# Altium footprint library con-omron.PCBLIB: 109 footprints (part 2 of 8)
Each footprint in its own frame and in the unit in brackets; x right, y up, seen from the top. Pads: shape width x height; smd on the part's side, far side on the other; paste and mask are expansions set on the pad; w line width, h text height; cw(c..) or ccw(c..) is an arc to the next point about the centre after c.
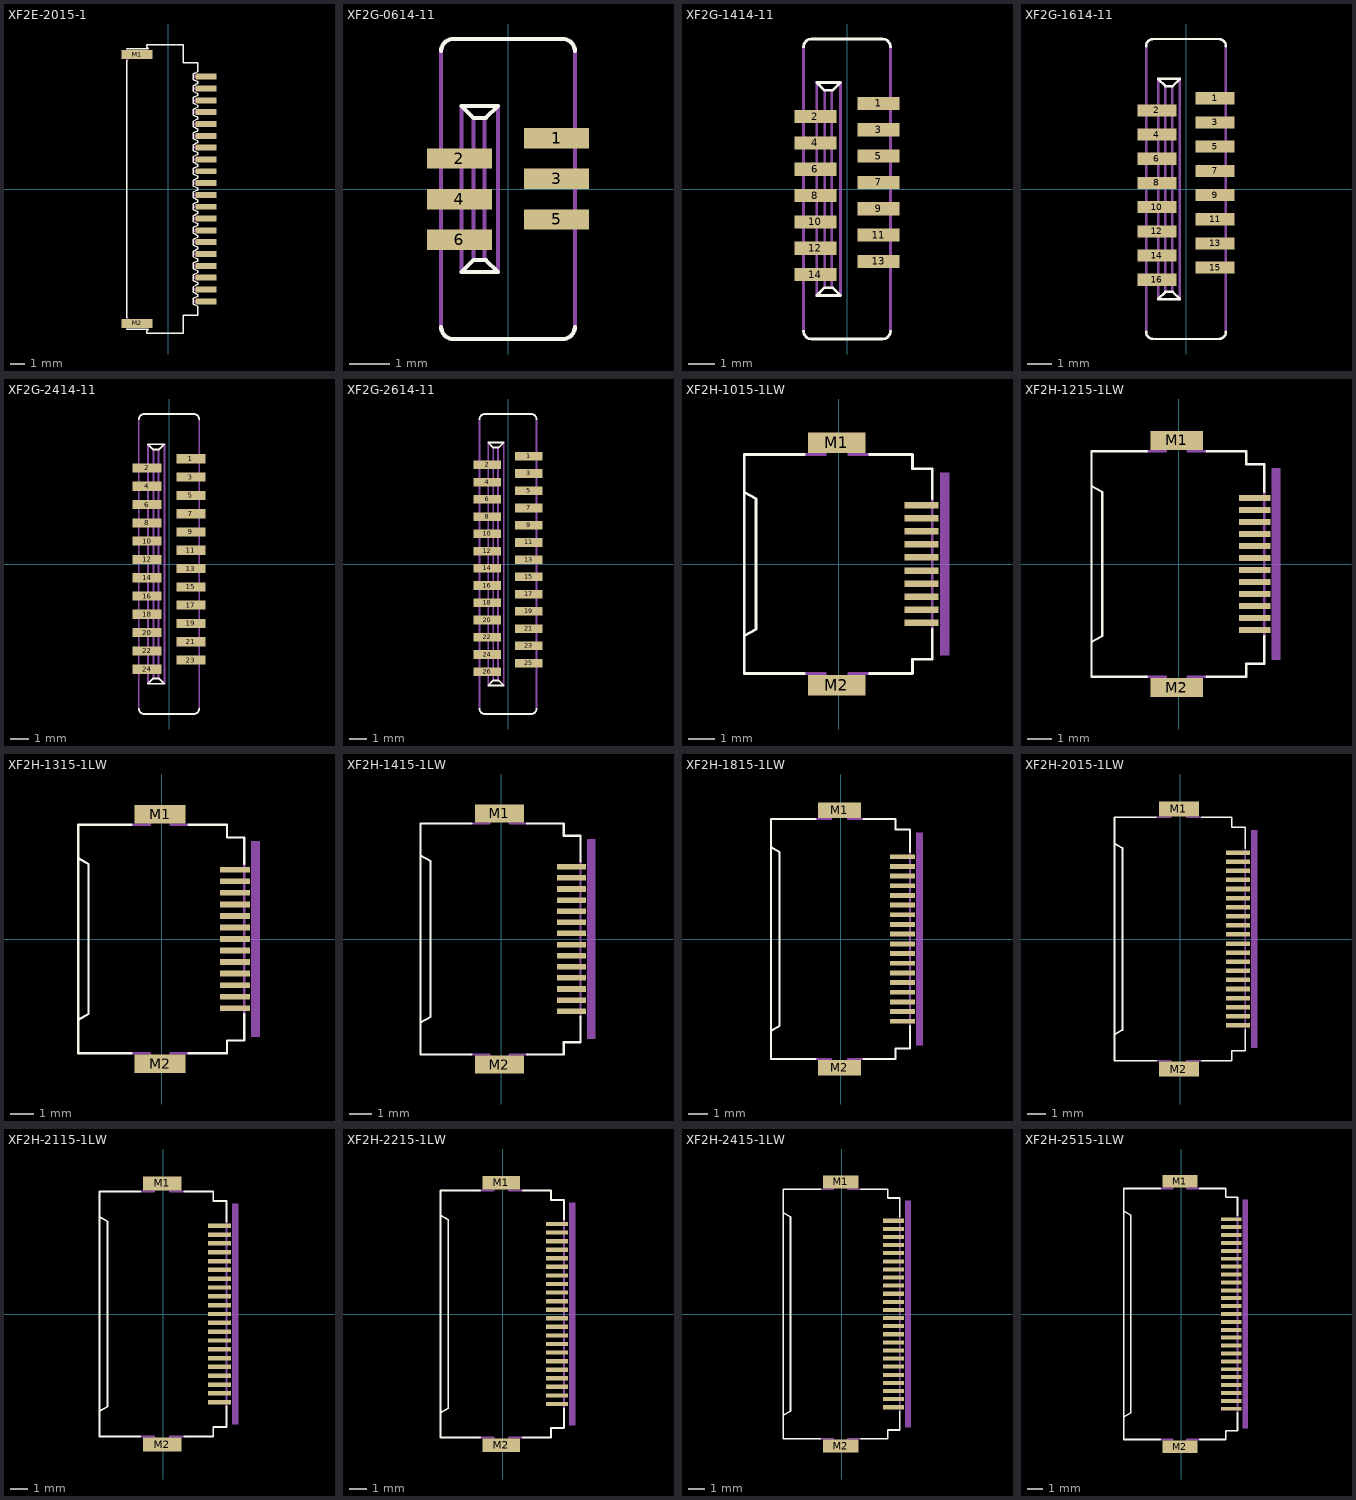
[diagram p1: the footprints below, top view; thin cyan lines are the x and y axes]

## XF2E-2015-1 [mm]
pads (22):
  rect 1.4x0.4 smd: 1(2.54,7.6) 2(2.54,6.8) 3(2.54,6) 4(2.54,5.2) 5(2.54,4.4) 6(2.54,3.6) 7(2.54,2.8) 8(2.54,2) 9(2.54,1.2) 10(2.54,0.4) 11(2.54,-0.4) 12(2.54,-1.2) 13(2.54,-2) 14(2.54,-2.8) 15(2.54,-3.6) 16(2.54,-4.4) 17(2.54,-5.2) 18(2.54,-6) 19(2.54,-6.8) 20(2.54,-7.6)
  rect 2.1x0.6 smd: M1(-2.11,9.1) M2(-2.11,-9.1)
Top Overlay:
  lines w0.102: -2.81,-9.5 -1.36,-9.5 -1.46,-9.6 -1.46,-9.75 0.99,-9.75 0.99,-8.55 1.99,-8.55 1.99,-7.95 1.69,-7.8 1.69,-7.4 1.99,-7.25 1.99,-7.15 1.69,-7 1.69,-6.6 1.99,-6.45 1.99,-6.35 1.69,-6.2 1.69,-5.8 1.99,-5.65 1.99,-5.55 1.69,-5.4 1.69,-5 1.99,-4.85 1.99,-4.75 1.69,-4.6 1.69,-4.2 1.99,-4.05 1.99,-3.95 1.69,-3.8 1.69,-3.4 1.99,-3.25 1.99,-3.15 1.69,-3 1.69,-2.6 1.99,-2.45 1.99,-2.35 1.69,-2.2 1.69,-1.8 1.99,-1.65 1.99,-1.55 1.69,-1.4 1.69,-1 1.99,-0.85 1.99,-0.75 1.69,-0.6 1.69,-0.2 1.99,-0.05 1.99,0.05 1.69,0.2 1.69,0.6 1.99,0.75 1.99,0.85 1.69,1 1.69,1.4 1.99,1.55 1.99,1.65 1.69,1.8 1.69,2.2 1.99,2.35 1.99,2.45 1.69,2.6 1.69,3 1.99,3.15 1.99,3.25 1.69,3.4 1.69,3.8 1.99,3.95 1.99,4.05 1.69,4.2 1.69,4.6 1.99,4.75 1.99,4.85 1.69,5 1.69,5.4 1.99,5.55 1.99,5.65 1.69,5.8 1.69,6.2 1.99,6.35 1.99,6.45 1.69,6.6 1.69,7 1.99,7.15 1.99,7.25 1.69,7.4 1.69,7.8 1.99,7.95 1.99,8.55 0.99,8.55 0.99,9.75 -1.46,9.75 -1.46,9.6 -1.36,9.5 -2.81,9.5 ; -2.81,-8.7 -2.81,8.7
Mechanical 16:
  rectangle: 1.74,7.5 2.74,7.7
  rectangle: 1.74,6.7 2.74,6.9
  rectangle: 1.74,5.9 2.74,6.1
  rectangle: 1.74,5.1 2.74,5.3
  rectangle: 1.74,4.3 2.74,4.5
  rectangle: 1.74,3.5 2.74,3.7
  rectangle: 1.74,2.7 2.74,2.9
  rectangle: 1.74,1.9 2.74,2.1
  rectangle: 1.74,1.1 2.74,1.3
  rectangle: 1.74,0.3 2.74,0.5
  rectangle: 1.74,-0.5 2.74,-0.3
  rectangle: 1.74,-1.3 2.74,-1.1
  rectangle: 1.74,-2.1 2.74,-1.9
  rectangle: 1.74,-2.9 2.74,-2.7
  rectangle: 1.74,-3.7 2.74,-3.5
  rectangle: 1.74,-4.5 2.74,-4.3
  rectangle: 1.74,-5.3 2.74,-5.1
  rectangle: 1.74,-6.1 2.74,-5.9
  rectangle: 1.74,-6.9 2.74,-6.7
  rectangle: 1.74,-7.7 2.74,-7.5
  lines w0.102: -2.81,-9.5 -2.81,-8.95 -2.61,-8.95 -2.81,-8.7 ; -2.81,8.7 -2.61,8.95 -2.81,8.95 -2.81,9.5

## XF2G-0614-11 [mm]
pads (6):
  rect 1.6x0.5 smd: 1(1.2,1.25) 2(-1.2,0.75) 3(1.2,0.25) 4(-1.2,-0.25) 5(1.2,-0.75) 6(-1.2,-1.25)
Top Overlay:
  lines w0.102: -1.65,-3.4 ccw(c-1.35,-3.4) -1.35,-3.7 1.35,-3.7 ccw(c1.35,-3.4) 1.65,-3.4 ; -1.65,3.4 cw(c-1.35,3.4) -1.35,3.7 1.35,3.7 cw(c1.35,3.4) 1.65,3.4 ; -0.575,-1.75 -0.85,-1.75 -1.15,-2.05 -0.25,-2.05 -0.55,-1.75 ; -0.575,1.75 -0.85,1.75 -1.15,2.05 -0.25,2.05 -0.55,1.75
Mechanical 16:
  lines w0.102: -1.65,-3.4 -1.65,3.4 ; -1.15,-2.05 -1.15,2.05 ; -0.85,-1.75 -0.85,1.75 ; -0.55,-1.75 -0.575,-1.75 -0.575,1.75 -0.55,1.75 ; -0.25,-2.05 -0.25,2.05 ; 1.65,-3.4 1.65,3.4

## XF2G-1414-11 [mm]
pads (14):
  rect 1.6x0.5 smd: 1(1.2,3.25) 2(-1.2,2.75) 3(1.2,2.25) 4(-1.2,1.75) 5(1.2,1.25) 6(-1.2,0.75) 7(1.2,0.25) 8(-1.2,-0.25) 9(1.2,-0.75) 10(-1.2,-1.25) 11(1.2,-1.75) 12(-1.2,-2.25) 13(1.2,-2.75) 14(-1.2,-3.25)
Top Overlay:
  lines w0.102: -1.65,-5.4 ccw(c-1.35,-5.4) -1.35,-5.7 1.35,-5.7 ccw(c1.35,-5.4) 1.65,-5.4 ; -1.65,5.4 cw(c-1.35,5.4) -1.35,5.7 1.35,5.7 cw(c1.35,5.4) 1.65,5.4 ; -0.575,-3.75 -0.85,-3.75 -1.15,-4.05 -0.25,-4.05 -0.55,-3.75 ; -0.575,3.75 -0.85,3.75 -1.15,4.05 -0.25,4.05 -0.55,3.75
Mechanical 16:
  lines w0.102: -1.65,-5.4 -1.65,5.4 ; -1.15,-4.05 -1.15,4.05 ; -0.85,-3.75 -0.85,3.75 ; -0.55,-3.75 -0.575,-3.75 -0.575,3.75 -0.55,3.75 ; -0.25,-4.05 -0.25,4.05 ; 1.65,-5.4 1.65,5.4

## XF2G-1614-11 [mm]
pads (16):
  rect 1.6x0.5 smd: 1(1.2,3.75) 2(-1.2,3.25) 3(1.2,2.75) 4(-1.2,2.25) 5(1.2,1.75) 6(-1.2,1.25) 7(1.2,0.75) 8(-1.2,0.25) 9(1.2,-0.25) 10(-1.2,-0.75) 11(1.2,-1.25) 12(-1.2,-1.75) 13(1.2,-2.25) 14(-1.2,-2.75) 15(1.2,-3.25) 16(-1.2,-3.75)
Top Overlay:
  lines w0.102: -1.65,-5.9 ccw(c-1.35,-5.9) -1.35,-6.2 1.35,-6.2 ccw(c1.35,-5.9) 1.65,-5.9 ; -1.65,5.9 cw(c-1.35,5.9) -1.35,6.2 1.35,6.2 cw(c1.35,5.9) 1.65,5.9 ; -0.575,-4.25 -0.85,-4.25 -1.15,-4.55 -0.25,-4.55 -0.55,-4.25 ; -0.575,4.25 -0.85,4.25 -1.15,4.55 -0.25,4.55 -0.55,4.25
Mechanical 16:
  lines w0.102: -1.65,-5.9 -1.65,5.9 ; -1.15,-4.55 -1.15,4.55 ; -0.85,-4.25 -0.85,4.25 ; -0.55,-4.25 -0.575,-4.25 -0.575,4.25 -0.55,4.25 ; -0.25,-4.55 -0.25,4.55 ; 1.65,-5.9 1.65,5.9

## XF2G-2414-11 [mm]
pads (24):
  rect 1.6x0.5 smd: 1(1.2,5.75) 2(-1.2,5.25) 3(1.2,4.75) 4(-1.2,4.25) 5(1.2,3.75) 6(-1.2,3.25) 7(1.2,2.75) 8(-1.2,2.25) 9(1.2,1.75) 10(-1.2,1.25) 11(1.2,0.75) 12(-1.2,0.25) 13(1.2,-0.25) 14(-1.2,-0.75) 15(1.2,-1.25) 16(-1.2,-1.75) 17(1.2,-2.25) 18(-1.2,-2.75) 19(1.2,-3.25) 20(-1.2,-3.75) 21(1.2,-4.25) 22(-1.2,-4.75) 23(1.2,-5.25) 24(-1.2,-5.75)
Top Overlay:
  lines w0.102: -1.65,-7.9 ccw(c-1.35,-7.9) -1.35,-8.2 1.35,-8.2 ccw(c1.35,-7.9) 1.65,-7.9 ; -1.65,7.9 cw(c-1.35,7.9) -1.35,8.2 1.35,8.2 cw(c1.35,7.9) 1.65,7.9 ; -0.575,-6.25 -0.85,-6.25 -1.15,-6.55 -0.25,-6.55 -0.55,-6.25 ; -0.575,6.25 -0.85,6.25 -1.15,6.55 -0.25,6.55 -0.55,6.25
Mechanical 16:
  lines w0.102: -1.65,-7.9 -1.65,7.9 ; -1.15,-6.55 -1.15,6.55 ; -0.85,-6.25 -0.85,6.25 ; -0.55,-6.25 -0.575,-6.25 -0.575,6.25 -0.55,6.25 ; -0.25,-6.55 -0.25,6.55 ; 1.65,-7.9 1.65,7.9

## XF2G-2614-11 [mm]
pads (26):
  rect 1.6x0.5 smd: 1(1.2,6.25) 2(-1.2,5.75) 3(1.2,5.25) 4(-1.2,4.75) 5(1.2,4.25) 6(-1.2,3.75) 7(1.2,3.25) 8(-1.2,2.75) 9(1.2,2.25) 10(-1.2,1.75) 11(1.2,1.25) 12(-1.2,0.75) 13(1.2,0.25) 14(-1.2,-0.25) 15(1.2,-0.75) 16(-1.2,-1.25) 17(1.2,-1.75) 18(-1.2,-2.25) 19(1.2,-2.75) 20(-1.2,-3.25) 21(1.2,-3.75) 22(-1.2,-4.25) 23(1.2,-4.75) 24(-1.2,-5.25) 25(1.2,-5.75) 26(-1.2,-6.25)
Top Overlay:
  lines w0.102: -1.65,-8.4 ccw(c-1.35,-8.4) -1.35,-8.7 1.35,-8.7 ccw(c1.35,-8.4) 1.65,-8.4 ; -1.65,8.4 cw(c-1.35,8.4) -1.35,8.7 1.35,8.7 cw(c1.35,8.4) 1.65,8.4 ; -0.575,-6.75 -0.85,-6.75 -1.15,-7.05 -0.25,-7.05 -0.55,-6.75 ; -0.575,6.75 -0.85,6.75 -1.15,7.05 -0.25,7.05 -0.55,6.75
Mechanical 16:
  lines w0.102: -1.65,-8.4 -1.65,8.4 ; -1.15,-7.05 -1.15,7.05 ; -0.85,-6.75 -0.85,6.75 ; -0.55,-6.75 -0.575,-6.75 -0.575,6.75 -0.55,6.75 ; -0.25,-7.05 -0.25,7.05 ; 1.65,-8.4 1.65,8.4

## XF2H-1015-1LW [mil]
pads (12):
  rect 51.18x9.84 smd: 1(125,88.58) 2(125,68.9) 3(125,49.21) 4(125,29.53) 5(125,9.84) 6(125,-9.84) 7(125,-29.53) 8(125,-49.21) 9(125,-68.9) 10(125,-88.58)
  rect 86.61x31.5 smd: M1(-2.95,183.07) M2(-2.95,-183.07)
Top Overlay:
  lines w4: -52.17,-165.35 -142.72,-165.35 -142.72,-108.27 ; -52.17,165.35 -142.72,165.35 -142.72,108.27 ; 46.26,-165.35 111.22,-165.35 111.22,-143.7 140.75,-143.7 140.75,-98.43 ; 46.26,165.35 111.22,165.35 111.22,143.7 140.75,143.7 140.75,98.43 ; -142.72,-108.27 -125,-98.43 -125,98.43 -142.72,108.27 ; -142.72,-108.27 -142.72,108.27
Top Solder:
  rectangle: 97.44,81.69 152.56,95.47
  rectangle: 97.44,62.01 152.56,75.79
  rectangle: 97.44,42.32 152.56,56.1
  rectangle: 97.44,22.64 152.56,36.42
  rectangle: 97.44,2.95 152.56,16.73
  rectangle: 97.44,-16.73 152.56,-2.95
  rectangle: 97.44,-36.42 152.56,-22.64
  rectangle: 97.44,-56.1 152.56,-42.32
  rectangle: 97.44,-75.79 152.56,-62.01
  rectangle: 97.44,-95.47 152.56,-81.69
Mechanical 16:
  lines w4: -52.17,-165.35 -20.67,-165.35 -20.67,-177.17 14.76,-177.17 14.76,-165.35 46.26,-165.35 ; -52.17,165.35 -20.67,165.35 -20.67,177.17 14.76,177.17 14.76,165.35 46.26,165.35 ; 140.75,-98.43 140.75,98.43
Via Holes:
  rectangle: 8.86,-98.43 97.44,98.43
Mechanical 27:
  rectangle: 152.56,-137.8 167.32,137.8

## XF2H-1215-1LW [mil]
pads (14):
  rect 51.18x9.84 smd: 1(125,108.27) 2(125,88.58) 3(125,68.9) 4(125,49.21) 5(125,29.53) 6(125,9.84) 7(125,-9.84) 8(125,-29.53) 9(125,-49.21) 10(125,-68.9) 11(125,-88.58) 12(125,-108.27)
  rect 86.61x31.5 smd: M1(-2.95,202.76) M2(-2.95,-202.76)
Top Overlay:
  lines w4: -52.17,-185.04 -142.72,-185.04 -142.72,-127.95 ; -52.17,185.04 -142.72,185.04 -142.72,127.95 ; 46.26,-185.04 111.22,-185.04 111.22,-163.39 140.75,-163.39 140.75,-118.11 ; 46.26,185.04 111.22,185.04 111.22,163.39 140.75,163.39 140.75,118.11 ; -142.72,-127.95 -125,-118.11 -125,118.11 -142.72,127.95 ; -142.72,-127.95 -142.72,127.95
Top Solder:
  rectangle: 97.44,101.38 152.56,115.16
  rectangle: 97.44,81.69 152.56,95.47
  rectangle: 97.44,62.01 152.56,75.79
  rectangle: 97.44,42.32 152.56,56.1
  rectangle: 97.44,22.64 152.56,36.42
  rectangle: 97.44,2.95 152.56,16.73
  rectangle: 97.44,-16.73 152.56,-2.95
  rectangle: 97.44,-36.42 152.56,-22.64
  rectangle: 97.44,-56.1 152.56,-42.32
  rectangle: 97.44,-75.79 152.56,-62.01
  rectangle: 97.44,-95.47 152.56,-81.69
  rectangle: 97.44,-115.16 152.56,-101.38
Mechanical 16:
  lines w4: -52.17,-185.04 -20.67,-185.04 -20.67,-196.85 14.76,-196.85 14.76,-185.04 46.26,-185.04 ; -52.17,185.04 -20.67,185.04 -20.67,196.85 14.76,196.85 14.76,185.04 46.26,185.04 ; 140.75,-118.11 140.75,118.11
Via Holes:
  rectangle: 8.86,-118.11 97.44,118.11
Mechanical 27:
  rectangle: 152.56,-157.48 167.32,157.48

## XF2H-1315-1LW [mm]
pads (15):
  rect 1.3x0.25 smd: 1(3.175,3) 2(3.175,2.5) 3(3.175,2) 4(3.175,1.5) 5(3.175,1) 6(3.175,0.5) 7(3.175,0) 8(3.175,-0.5) 9(3.175,-1) 10(3.175,-1.5) 11(3.175,-2) 12(3.175,-2.5) 13(3.175,-3)
  rect 2.2x0.8 smd: M1(-0.075,5.4) M2(-0.075,-5.4)
Top Overlay:
  lines w0.102: -1.325,-4.95 -3.625,-4.95 -3.625,-3.5 ; -1.325,4.95 -3.625,4.95 -3.625,3.5 ; 1.175,-4.95 2.825,-4.95 2.825,-4.4 3.575,-4.4 3.575,-3.25 ; 1.175,4.95 2.825,4.95 2.825,4.4 3.575,4.4 3.575,3.25 ; -3.625,-3.5 -3.175,-3.25 -3.175,3.25 -3.625,3.5 ; -3.625,-3.5 -3.625,3.5
Top Solder:
  rectangle: 2.475,2.825 3.875,3.175
  rectangle: 2.475,2.325 3.875,2.675
  rectangle: 2.475,1.825 3.875,2.175
  rectangle: 2.475,1.325 3.875,1.675
  rectangle: 2.475,0.825 3.875,1.175
  rectangle: 2.475,0.325 3.875,0.675
  rectangle: 2.475,-0.175 3.875,0.175
  rectangle: 2.475,-0.675 3.875,-0.325
  rectangle: 2.475,-1.175 3.875,-0.825
  rectangle: 2.475,-1.675 3.875,-1.325
  rectangle: 2.475,-2.175 3.875,-1.825
  rectangle: 2.475,-2.675 3.875,-2.325
  rectangle: 2.475,-3.175 3.875,-2.825
Mechanical 16:
  lines w0.102: -1.325,-4.95 -0.525,-4.95 -0.525,-5.25 0.375,-5.25 0.375,-4.95 1.175,-4.95 ; -1.325,4.95 -0.525,4.95 -0.525,5.25 0.375,5.25 0.375,4.95 1.175,4.95 ; 3.575,-3.25 3.575,3.25
Via Holes:
  rectangle: 0.225,-3.25 2.475,3.25
Mechanical 27:
  rectangle: 3.875,-4.25 4.25,4.25

## XF2H-1415-1LW [mil]
pads (16):
  rect 51.18x9.84 smd: 1(125,127.95) 2(125,108.27) 3(125,88.58) 4(125,68.9) 5(125,49.21) 6(125,29.53) 7(125,9.84) 8(125,-9.84) 9(125,-29.53) 10(125,-49.21) 11(125,-68.9) 12(125,-88.58) 13(125,-108.27) 14(125,-127.95)
  rect 86.61x31.5 smd: M1(-2.95,222.44) M2(-2.95,-222.44)
Top Overlay:
  lines w4: -52.17,-204.72 -142.72,-204.72 -142.72,-147.64 ; -52.17,204.72 -142.72,204.72 -142.72,147.64 ; 46.26,-204.72 111.22,-204.72 111.22,-183.07 140.75,-183.07 140.75,-137.8 ; 46.26,204.72 111.22,204.72 111.22,183.07 140.75,183.07 140.75,137.8 ; -142.72,-147.64 -125,-137.8 -125,137.8 -142.72,147.64 ; -142.72,-147.64 -142.72,147.64
Top Solder:
  rectangle: 97.44,121.06 152.56,134.84
  rectangle: 97.44,101.38 152.56,115.16
  rectangle: 97.44,81.69 152.56,95.47
  rectangle: 97.44,62.01 152.56,75.79
  rectangle: 97.44,42.32 152.56,56.1
  rectangle: 97.44,22.64 152.56,36.42
  rectangle: 97.44,2.95 152.56,16.73
  rectangle: 97.44,-16.73 152.56,-2.95
  rectangle: 97.44,-36.42 152.56,-22.64
  rectangle: 97.44,-56.1 152.56,-42.32
  rectangle: 97.44,-75.79 152.56,-62.01
  rectangle: 97.44,-95.47 152.56,-81.69
  rectangle: 97.44,-115.16 152.56,-101.38
  rectangle: 97.44,-134.84 152.56,-121.06
Mechanical 16:
  lines w4: -52.17,-204.72 -20.67,-204.72 -20.67,-216.54 14.76,-216.54 14.76,-204.72 46.26,-204.72 ; -52.17,204.72 -20.67,204.72 -20.67,216.54 14.76,216.54 14.76,204.72 46.26,204.72 ; 140.75,-137.8 140.75,137.8
Via Holes:
  rectangle: 8.86,-137.8 97.44,137.8
Mechanical 27:
  rectangle: 152.56,-177.17 167.32,177.17

## XF2H-1815-1LW [mil]
pads (20):
  rect 51.18x9.84 smd: 1(125,167.32) 2(125,147.64) 3(125,127.95) 4(125,108.27) 5(125,88.58) 6(125,68.9) 7(125,49.21) 8(125,29.53) 9(125,9.84) 10(125,-9.84) 11(125,-29.53) 12(125,-49.21) 13(125,-68.9) 14(125,-88.58) 15(125,-108.27) 16(125,-127.95) 17(125,-147.64) 18(125,-167.32)
  rect 86.61x31.5 smd: M1(-2.95,261.81) M2(-2.95,-261.81)
Top Overlay:
  lines w4: -52.17,-244.09 -142.72,-244.09 -142.72,-187.01 ; -52.17,244.09 -142.72,244.09 -142.72,187.01 ; 46.26,-244.09 111.22,-244.09 111.22,-222.44 140.75,-222.44 140.75,-177.17 ; 46.26,244.09 111.22,244.09 111.22,222.44 140.75,222.44 140.75,177.17 ; -142.72,-187.01 -125,-177.17 -125,177.17 -142.72,187.01 ; -142.72,-187.01 -142.72,187.01
Top Solder:
  rectangle: 97.44,160.43 152.56,174.21
  rectangle: 97.44,140.75 152.56,154.53
  rectangle: 97.44,121.06 152.56,134.84
  rectangle: 97.44,101.38 152.56,115.16
  rectangle: 97.44,81.69 152.56,95.47
  rectangle: 97.44,62.01 152.56,75.79
  rectangle: 97.44,42.32 152.56,56.1
  rectangle: 97.44,22.64 152.56,36.42
  rectangle: 97.44,2.95 152.56,16.73
  rectangle: 97.44,-16.73 152.56,-2.95
  rectangle: 97.44,-36.42 152.56,-22.64
  rectangle: 97.44,-56.1 152.56,-42.32
  rectangle: 97.44,-75.79 152.56,-62.01
  rectangle: 97.44,-95.47 152.56,-81.69
  rectangle: 97.44,-115.16 152.56,-101.38
  rectangle: 97.44,-134.84 152.56,-121.06
  rectangle: 97.44,-154.53 152.56,-140.75
  rectangle: 97.44,-174.21 152.56,-160.43
Mechanical 16:
  lines w4: -52.17,-244.09 -20.67,-244.09 -20.67,-255.91 14.76,-255.91 14.76,-244.09 46.26,-244.09 ; -52.17,244.09 -20.67,244.09 -20.67,255.91 14.76,255.91 14.76,244.09 46.26,244.09 ; 140.75,-177.17 140.75,177.17
Via Holes:
  rectangle: 8.86,-177.17 97.44,177.17
Mechanical 27:
  rectangle: 152.56,-216.54 167.32,216.54

## XF2H-2015-1LW [mil]
pads (22):
  rect 51.18x9.84 smd: 1(125,187.01) 2(125,167.32) 3(125,147.64) 4(125,127.95) 5(125,108.27) 6(125,88.58) 7(125,68.9) 8(125,49.21) 9(125,29.53) 10(125,9.84) 11(125,-9.84) 12(125,-29.53) 13(125,-49.21) 14(125,-68.9) 15(125,-88.58) 16(125,-108.27) 17(125,-127.95) 18(125,-147.64) 19(125,-167.32) 20(125,-187.01)
  rect 86.61x31.5 smd: M1(-2.95,281.5) M2(-2.95,-281.5)
Top Overlay:
  lines w4: -52.17,-263.78 -142.72,-263.78 -142.72,-206.69 ; -52.17,263.78 -142.72,263.78 -142.72,206.69 ; 46.26,-263.78 111.22,-263.78 111.22,-242.13 140.75,-242.13 140.75,-196.85 ; 46.26,263.78 111.22,263.78 111.22,242.13 140.75,242.13 140.75,196.85 ; -142.72,-206.69 -125,-196.85 -125,196.85 -142.72,206.69 ; -142.72,-206.69 -142.72,206.69
Top Solder:
  rectangle: 97.44,180.12 152.56,193.9
  rectangle: 97.44,160.43 152.56,174.21
  rectangle: 97.44,140.75 152.56,154.53
  rectangle: 97.44,121.06 152.56,134.84
  rectangle: 97.44,101.38 152.56,115.16
  rectangle: 97.44,81.69 152.56,95.47
  rectangle: 97.44,62.01 152.56,75.79
  rectangle: 97.44,42.32 152.56,56.1
  rectangle: 97.44,22.64 152.56,36.42
  rectangle: 97.44,2.95 152.56,16.73
  rectangle: 97.44,-16.73 152.56,-2.95
  rectangle: 97.44,-36.42 152.56,-22.64
  rectangle: 97.44,-56.1 152.56,-42.32
  rectangle: 97.44,-75.79 152.56,-62.01
  rectangle: 97.44,-95.47 152.56,-81.69
  rectangle: 97.44,-115.16 152.56,-101.38
  rectangle: 97.44,-134.84 152.56,-121.06
  rectangle: 97.44,-154.53 152.56,-140.75
  rectangle: 97.44,-174.21 152.56,-160.43
  rectangle: 97.44,-193.9 152.56,-180.12
Mechanical 16:
  lines w4: -52.17,-263.78 -20.67,-263.78 -20.67,-275.59 14.76,-275.59 14.76,-263.78 46.26,-263.78 ; -52.17,263.78 -20.67,263.78 -20.67,275.59 14.76,275.59 14.76,263.78 46.26,263.78 ; 140.75,-196.85 140.75,196.85
Via Holes:
  rectangle: 8.86,-196.85 97.44,196.85
Mechanical 27:
  rectangle: 152.56,-236.22 167.32,236.22

## XF2H-2115-1LW [mm]
pads (23):
  rect 1.3x0.25 smd: 1(3.175,5) 2(3.175,4.5) 3(3.175,4) 4(3.175,3.5) 5(3.175,3) 6(3.175,2.5) 7(3.175,2) 8(3.175,1.5) 9(3.175,1) 10(3.175,0.5) 11(3.175,0) 12(3.175,-0.5) 13(3.175,-1) 14(3.175,-1.5) 15(3.175,-2) 16(3.175,-2.5) 17(3.175,-3) 18(3.175,-3.5) 19(3.175,-4) 20(3.175,-4.5) 21(3.175,-5)
  rect 2.2x0.8 smd: M1(-0.075,7.4) M2(-0.075,-7.4)
Top Overlay:
  lines w0.102: -1.325,-6.95 -3.625,-6.95 -3.625,-5.5 ; -1.325,6.95 -3.625,6.95 -3.625,5.5 ; 1.175,-6.95 2.825,-6.95 2.825,-6.4 3.575,-6.4 3.575,-5.25 ; 1.175,6.95 2.825,6.95 2.825,6.4 3.575,6.4 3.575,5.25 ; -3.625,-5.5 -3.175,-5.25 -3.175,5.25 -3.625,5.5 ; -3.625,-5.5 -3.625,5.5
Top Solder:
  rectangle: 2.475,4.825 3.875,5.175
  rectangle: 2.475,4.325 3.875,4.675
  rectangle: 2.475,3.825 3.875,4.175
  rectangle: 2.475,3.325 3.875,3.675
  rectangle: 2.475,2.825 3.875,3.175
  rectangle: 2.475,2.325 3.875,2.675
  rectangle: 2.475,1.825 3.875,2.175
  rectangle: 2.475,1.325 3.875,1.675
  rectangle: 2.475,0.825 3.875,1.175
  rectangle: 2.475,0.325 3.875,0.675
  rectangle: 2.475,-0.175 3.875,0.175
  rectangle: 2.475,-0.675 3.875,-0.325
  rectangle: 2.475,-1.175 3.875,-0.825
  rectangle: 2.475,-1.675 3.875,-1.325
  rectangle: 2.475,-2.175 3.875,-1.825
  rectangle: 2.475,-2.675 3.875,-2.325
  rectangle: 2.475,-3.175 3.875,-2.825
  rectangle: 2.475,-3.675 3.875,-3.325
  rectangle: 2.475,-4.175 3.875,-3.825
  rectangle: 2.475,-4.675 3.875,-4.325
  rectangle: 2.475,-5.175 3.875,-4.825
Mechanical 16:
  lines w0.102: -1.325,-6.95 -0.525,-6.95 -0.525,-7.25 0.375,-7.25 0.375,-6.95 1.175,-6.95 ; -1.325,6.95 -0.525,6.95 -0.525,7.25 0.375,7.25 0.375,6.95 1.175,6.95 ; 3.575,-5.25 3.575,5.25
Via Holes:
  rectangle: 0.225,-5.25 2.475,5.25
Mechanical 27:
  rectangle: 3.875,-6.25 4.25,6.25

## XF2H-2215-1LW [mil]
pads (24):
  rect 51.18x9.84 smd: 1(125,206.69) 2(125,187.01) 3(125,167.32) 4(125,147.64) 5(125,127.95) 6(125,108.27) 7(125,88.58) 8(125,68.9) 9(125,49.21) 10(125,29.53) 11(125,9.84) 12(125,-9.84) 13(125,-29.53) 14(125,-49.21) 15(125,-68.9) 16(125,-88.58) 17(125,-108.27) 18(125,-127.95) 19(125,-147.64) 20(125,-167.32) 21(125,-187.01) 22(125,-206.69)
  rect 86.61x31.5 smd: M1(-2.95,301.18) M2(-2.95,-301.18)
Top Overlay:
  lines w4: -52.17,-283.46 -142.72,-283.46 -142.72,-226.38 ; -52.17,283.46 -142.72,283.46 -142.72,226.38 ; 46.26,-283.46 111.22,-283.46 111.22,-261.81 140.75,-261.81 140.75,-216.54 ; 46.26,283.46 111.22,283.46 111.22,261.81 140.75,261.81 140.75,216.54 ; -142.72,-226.38 -125,-216.54 -125,216.54 -142.72,226.38 ; -142.72,-226.38 -142.72,226.38
Top Solder:
  rectangle: 97.44,199.8 152.56,213.58
  rectangle: 97.44,180.12 152.56,193.9
  rectangle: 97.44,160.43 152.56,174.21
  rectangle: 97.44,140.75 152.56,154.53
  rectangle: 97.44,121.06 152.56,134.84
  rectangle: 97.44,101.38 152.56,115.16
  rectangle: 97.44,81.69 152.56,95.47
  rectangle: 97.44,62.01 152.56,75.79
  rectangle: 97.44,42.32 152.56,56.1
  rectangle: 97.44,22.64 152.56,36.42
  rectangle: 97.44,2.95 152.56,16.73
  rectangle: 97.44,-16.73 152.56,-2.95
  rectangle: 97.44,-36.42 152.56,-22.64
  rectangle: 97.44,-56.1 152.56,-42.32
  rectangle: 97.44,-75.79 152.56,-62.01
  rectangle: 97.44,-95.47 152.56,-81.69
  rectangle: 97.44,-115.16 152.56,-101.38
  rectangle: 97.44,-134.84 152.56,-121.06
  rectangle: 97.44,-154.53 152.56,-140.75
  rectangle: 97.44,-174.21 152.56,-160.43
  rectangle: 97.44,-193.9 152.56,-180.12
  rectangle: 97.44,-213.58 152.56,-199.8
Mechanical 16:
  lines w4: -52.17,-283.46 -20.67,-283.46 -20.67,-295.28 14.76,-295.28 14.76,-283.46 46.26,-283.46 ; -52.17,283.46 -20.67,283.46 -20.67,295.28 14.76,295.28 14.76,283.46 46.26,283.46 ; 140.75,-216.54 140.75,216.54
Via Holes:
  rectangle: 8.86,-216.54 97.44,216.54
Mechanical 27:
  rectangle: 152.56,-255.91 167.32,255.91

## XF2H-2415-1LW [mil]
pads (26):
  rect 51.18x9.84 smd: 1(125,226.38) 2(125,206.69) 3(125,187.01) 4(125,167.32) 5(125,147.64) 6(125,127.95) 7(125,108.27) 8(125,88.58) 9(125,68.9) 10(125,49.21) 11(125,29.53) 12(125,9.84) 13(125,-9.84) 14(125,-29.53) 15(125,-49.21) 16(125,-68.9) 17(125,-88.58) 18(125,-108.27) 19(125,-127.95) 20(125,-147.64) 21(125,-167.32) 22(125,-187.01) 23(125,-206.69) 24(125,-226.38)
  rect 86.61x31.5 smd: M1(-2.95,320.87) M2(-2.95,-320.87)
Top Overlay:
  lines w4: -52.17,-303.15 -142.72,-303.15 -142.72,-246.06 ; -52.17,303.15 -142.72,303.15 -142.72,246.06 ; 46.26,-303.15 111.22,-303.15 111.22,-281.5 140.75,-281.5 140.75,-236.22 ; 46.26,303.15 111.22,303.15 111.22,281.5 140.75,281.5 140.75,236.22 ; -142.72,-246.06 -125,-236.22 -125,236.22 -142.72,246.06 ; -142.72,-246.06 -142.72,246.06
Top Solder:
  rectangle: 97.44,219.49 152.56,233.27
  rectangle: 97.44,199.8 152.56,213.58
  rectangle: 97.44,180.12 152.56,193.9
  rectangle: 97.44,160.43 152.56,174.21
  rectangle: 97.44,140.75 152.56,154.53
  rectangle: 97.44,121.06 152.56,134.84
  rectangle: 97.44,101.38 152.56,115.16
  rectangle: 97.44,81.69 152.56,95.47
  rectangle: 97.44,62.01 152.56,75.79
  rectangle: 97.44,42.32 152.56,56.1
  rectangle: 97.44,22.64 152.56,36.42
  rectangle: 97.44,2.95 152.56,16.73
  rectangle: 97.44,-16.73 152.56,-2.95
  rectangle: 97.44,-36.42 152.56,-22.64
  rectangle: 97.44,-56.1 152.56,-42.32
  rectangle: 97.44,-75.79 152.56,-62.01
  rectangle: 97.44,-95.47 152.56,-81.69
  rectangle: 97.44,-115.16 152.56,-101.38
  rectangle: 97.44,-134.84 152.56,-121.06
  rectangle: 97.44,-154.53 152.56,-140.75
  rectangle: 97.44,-174.21 152.56,-160.43
  rectangle: 97.44,-193.9 152.56,-180.12
  rectangle: 97.44,-213.58 152.56,-199.8
  rectangle: 97.44,-233.27 152.56,-219.49
Mechanical 16:
  lines w4: -52.17,-303.15 -20.67,-303.15 -20.67,-314.96 14.76,-314.96 14.76,-303.15 46.26,-303.15 ; -52.17,303.15 -20.67,303.15 -20.67,314.96 14.76,314.96 14.76,303.15 46.26,303.15 ; 140.75,-236.22 140.75,236.22
Via Holes:
  rectangle: 8.86,-236.22 97.44,236.22
Mechanical 27:
  rectangle: 152.56,-275.59 167.32,275.59

## XF2H-2515-1LW [mm]
pads (27):
  rect 1.3x0.25 smd: 1(3.175,6) 2(3.175,5.5) 3(3.175,5) 4(3.175,4.5) 5(3.175,4) 6(3.175,3.5) 7(3.175,3) 8(3.175,2.5) 9(3.175,2) 10(3.175,1.5) 11(3.175,1) 12(3.175,0.5) 13(3.175,0) 14(3.175,-0.5) 15(3.175,-1) 16(3.175,-1.5) 17(3.175,-2) 18(3.175,-2.5) 19(3.175,-3) 20(3.175,-3.5) 21(3.175,-4) 22(3.175,-4.5) 23(3.175,-5) 24(3.175,-5.5) 25(3.175,-6)
  rect 2.2x0.8 smd: M1(-0.075,8.4) M2(-0.075,-8.4)
Top Overlay:
  lines w0.102: -1.325,-7.95 -3.625,-7.95 -3.625,-6.5 ; -1.325,7.95 -3.625,7.95 -3.625,6.5 ; 1.175,-7.95 2.825,-7.95 2.825,-7.4 3.575,-7.4 3.575,-6.25 ; 1.175,7.95 2.825,7.95 2.825,7.4 3.575,7.4 3.575,6.25 ; -3.625,-6.5 -3.175,-6.25 -3.175,6.25 -3.625,6.5 ; -3.625,-6.5 -3.625,6.5
Top Solder:
  rectangle: 2.475,5.825 3.875,6.175
  rectangle: 2.475,5.325 3.875,5.675
  rectangle: 2.475,4.825 3.875,5.175
  rectangle: 2.475,4.325 3.875,4.675
  rectangle: 2.475,3.825 3.875,4.175
  rectangle: 2.475,3.325 3.875,3.675
  rectangle: 2.475,2.825 3.875,3.175
  rectangle: 2.475,2.325 3.875,2.675
  rectangle: 2.475,1.825 3.875,2.175
  rectangle: 2.475,1.325 3.875,1.675
  rectangle: 2.475,0.825 3.875,1.175
  rectangle: 2.475,0.325 3.875,0.675
  rectangle: 2.475,-0.175 3.875,0.175
  rectangle: 2.475,-0.675 3.875,-0.325
  rectangle: 2.475,-1.175 3.875,-0.825
  rectangle: 2.475,-1.675 3.875,-1.325
  rectangle: 2.475,-2.175 3.875,-1.825
  rectangle: 2.475,-2.675 3.875,-2.325
  rectangle: 2.475,-3.175 3.875,-2.825
  rectangle: 2.475,-3.675 3.875,-3.325
  rectangle: 2.475,-4.175 3.875,-3.825
  rectangle: 2.475,-4.675 3.875,-4.325
  rectangle: 2.475,-5.175 3.875,-4.825
  rectangle: 2.475,-5.675 3.875,-5.325
  rectangle: 2.475,-6.175 3.875,-5.825
Mechanical 16:
  lines w0.102: -1.325,-7.95 -0.525,-7.95 -0.525,-8.25 0.375,-8.25 0.375,-7.95 1.175,-7.95 ; -1.325,7.95 -0.525,7.95 -0.525,8.25 0.375,8.25 0.375,7.95 1.175,7.95 ; 3.575,-6.25 3.575,6.25
Via Holes:
  rectangle: 0.225,-6.25 2.475,6.25
Mechanical 27:
  rectangle: 3.875,-7.25 4.25,7.25